# EAGLE library part AY-3-8912_28PIN (library 8Bit_Parts)
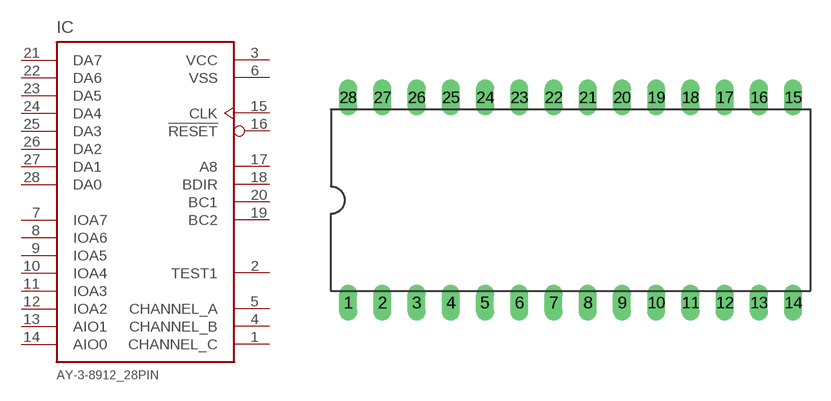
[diagram p6: symbol with the pads of DIL28; footprint DIL28]

Designator prefix IC

## AY-3-8912_28PIN  [DIL28]
1  CHANNEL_C  out
2  TEST1  nc
3  VCC  pwr
4  CHANNEL_B  out
5  CHANNEL_A  out
6  VSS  pwr
7  IOA7
8  IOA6
9  IOA5
10  IOA4
11  IOA3
12  IOA2
13  AIO1
14  AIO0
15  CLK  in
16  !RESET  in
17  A8  in
18  BDIR  in
19  BC2  in
20  BC1  in
21  DA7
22  DA6
23  DA5
24  DA4
25  DA3
26  DA2
27  DA1
28  DA0

## Footprint DIL28 (pad centres in mm)
Dual In Line Package
drill 0.813 long: 1 -16.51,-7.62; 2 -13.97,-7.62; 3 -11.43,-7.62; 4 -8.89,-7.62; 5 -6.35,-7.62; 6 -3.81,-7.62; 7 -1.27,-7.62; 8 1.27,-7.62; 9 3.81,-7.62; 10 6.35,-7.62; 11 8.89,-7.62; 12 11.43,-7.62; 13 13.97,-7.62; 14 16.51,-7.62; 15 16.51,7.62; 16 13.97,7.62; 17 11.43,7.62; 18 8.89,7.62; 19 6.35,7.62; 20 3.81,7.62; 21 1.27,7.62; 22 -1.27,7.62; 23 -3.81,7.62; 24 -6.35,7.62; 25 -8.89,7.62; 26 -11.43,7.62; 27 -13.97,7.62; 28 -16.51,7.62